# EAGLE library part XC9572XL_VQ64 (library xess)
Xilinx 64-macrocell CPLD
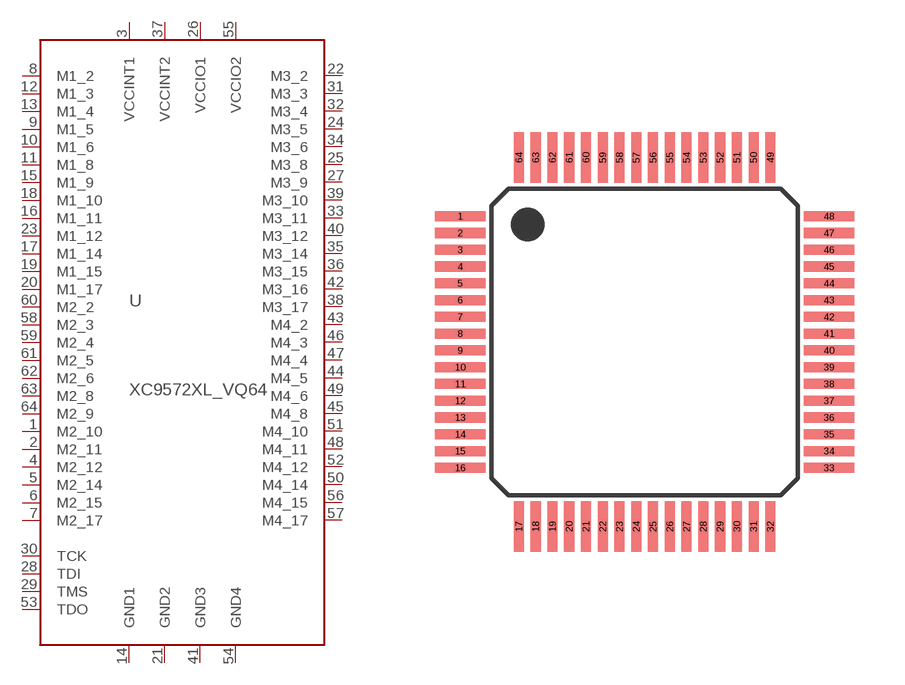
[diagram p22: symbol with the pads of VQ64; footprint VQ64]

Designator prefix U

## XC9572XL_VQ64  [VQ64]
1  M2_10
2  M2_11
3  VCCINT1  pwr
4  M2_12
5  M2_14
6  M2_15
7  M2_17
8  M1_2
9  M1_5
10  M1_6
11  M1_8
12  M1_3
13  M1_4
14  GND1  pwr
15  M1_9
16  M1_11
17  M1_14
18  M1_10
19  M1_15
20  M1_17
21  GND2  pwr
22  M3_2
23  M1_12
24  M3_5
25  M3_8
26  VCCIO1  pwr
27  M3_9
28  TDI  in
29  TMS  in
30  TCK  in
31  M3_3
32  M3_4
33  M3_11
34  M3_6
35  M3_14
36  M3_15
37  VCCINT2  pwr
38  M3_17
39  M3_10
40  M3_12
41  GND3  pwr
42  M3_16
43  M4_2
44  M4_5
45  M4_8
46  M4_3
47  M4_4
48  M4_11
49  M4_6
50  M4_14
51  M4_10
52  M4_12
53  TDO  out
54  GND4  pwr
55  VCCIO2  pwr
56  M4_15
57  M4_17
58  M2_3
59  M2_4
60  M2_2
61  M2_5
62  M2_6
63  M2_8
64  M2_9

## Footprint VQ64 (pad centres in mm)
smd 1.5 x 0.3: 1 -5.5,3.75; 2 -5.5,3.25; 3 -5.5,2.75; 4 -5.5,2.25; 5 -5.5,1.75; 6 -5.5,1.25; 7 -5.5,0.75; 8 -5.5,0.25; 9 -5.5,-0.25; 10 -5.5,-0.75; 11 -5.5,-1.25; 12 -5.5,-1.75; 13 -5.5,-2.25; 14 -5.5,-2.75; 15 -5.5,-3.25; 16 -5.5,-3.75; 33 5.5,-3.75; 34 5.5,-3.25; 35 5.5,-2.75; 36 5.5,-2.25; 37 5.5,-1.75; 38 5.5,-1.25; 39 5.5,-0.75; 40 5.5,-0.25; 41 5.5,0.25; 42 5.5,0.75; 43 5.5,1.25; 44 5.5,1.75; 45 5.5,2.25; 46 5.5,2.75; 47 5.5,3.25; 48 5.5,3.75
smd 0.3 x 1.5: 17 -3.75,-5.5; 18 -3.25,-5.5; 19 -2.75,-5.5; 20 -2.25,-5.5; 21 -1.75,-5.5; 22 -1.25,-5.5; 23 -0.75,-5.5; 24 -0.25,-5.5; 25 0.25,-5.5; 26 0.75,-5.5; 27 1.25,-5.5; 28 1.75,-5.5; 29 2.25,-5.5; 30 2.75,-5.5; 31 3.25,-5.5; 32 3.75,-5.5; 49 3.75,5.5; 50 3.25,5.5; 51 2.75,5.5; 52 2.25,5.5; 53 1.75,5.5; 54 1.25,5.5; 55 0.75,5.5; 56 0.25,5.5; 57 -0.25,5.5; 58 -0.75,5.5; 59 -1.25,5.5; 60 -1.75,5.5; 61 -2.25,5.5; 62 -2.75,5.5; 63 -3.25,5.5; 64 -3.75,5.5